# EAGLE library part 64128E-MODULE (library jt-displays-outlines)
Displaytech 64128E-GC-BC-4LP module RS order 532-7079
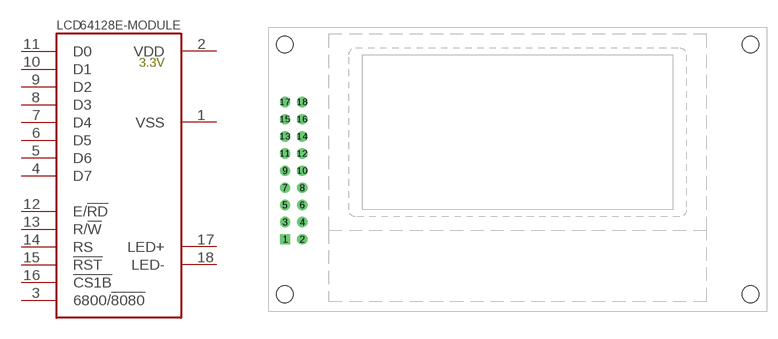
[diagram p0: symbol with the pads of 64128E-MODULE; footprint 64128E-MODULE]

Designator prefix LCD

## 64128E-MODULE  [64128E-MODULE]
1  VSS  pwr
2  VDD  pwr
3  6800/!8080  in
4  D7
5  D6
6  D5
7  D4
8  D3
9  D2
10  D1
11  D0
12  E/!RD  in
13  R/!W  in
14  RS  in
15  !RST  in
16  !CS1B  in
17  LED+  pwr
18  LED-  pwr

## Footprint 64128E-MODULE (pad centres in mm)
DisplayTech 64128E module RS order 532-7079
drill 0.8 pad 1.524 square: 1 2.54,10.66
drill 0.8 pad 1.524 round: 2 5.08,10.66; 3 2.54,13.2; 4 5.08,13.2; 5 2.54,15.74; 6 5.08,15.74; 7 2.54,18.28; 8 5.08,18.28; 9 2.54,20.82; 10 5.08,20.82; 11 2.54,23.36; 12 5.08,23.36; 13 2.54,25.9; 14 5.08,25.9; 15 2.54,28.44; 16 5.08,28.44; 17 2.54,30.98; 18 5.08,30.98
hole 2.5 at 2.5,2.5
hole 2.5 at 71.5,2.5
hole 2.5 at 71.5,39.5
hole 2.5 at 2.5,39.5